# Altium footprint library SMD-IC  0607.PcbLib: 125 footprints (part 1 of 8)
Each footprint in its own frame and in the unit in brackets; x right, y up, seen from the top. Pads: shape width x height; smd on the part's side, far side on the other; paste and mask are expansions set on the pad; w line width, h text height; cw(c..) or ccw(c..) is an arc to the next point about the centre after c.
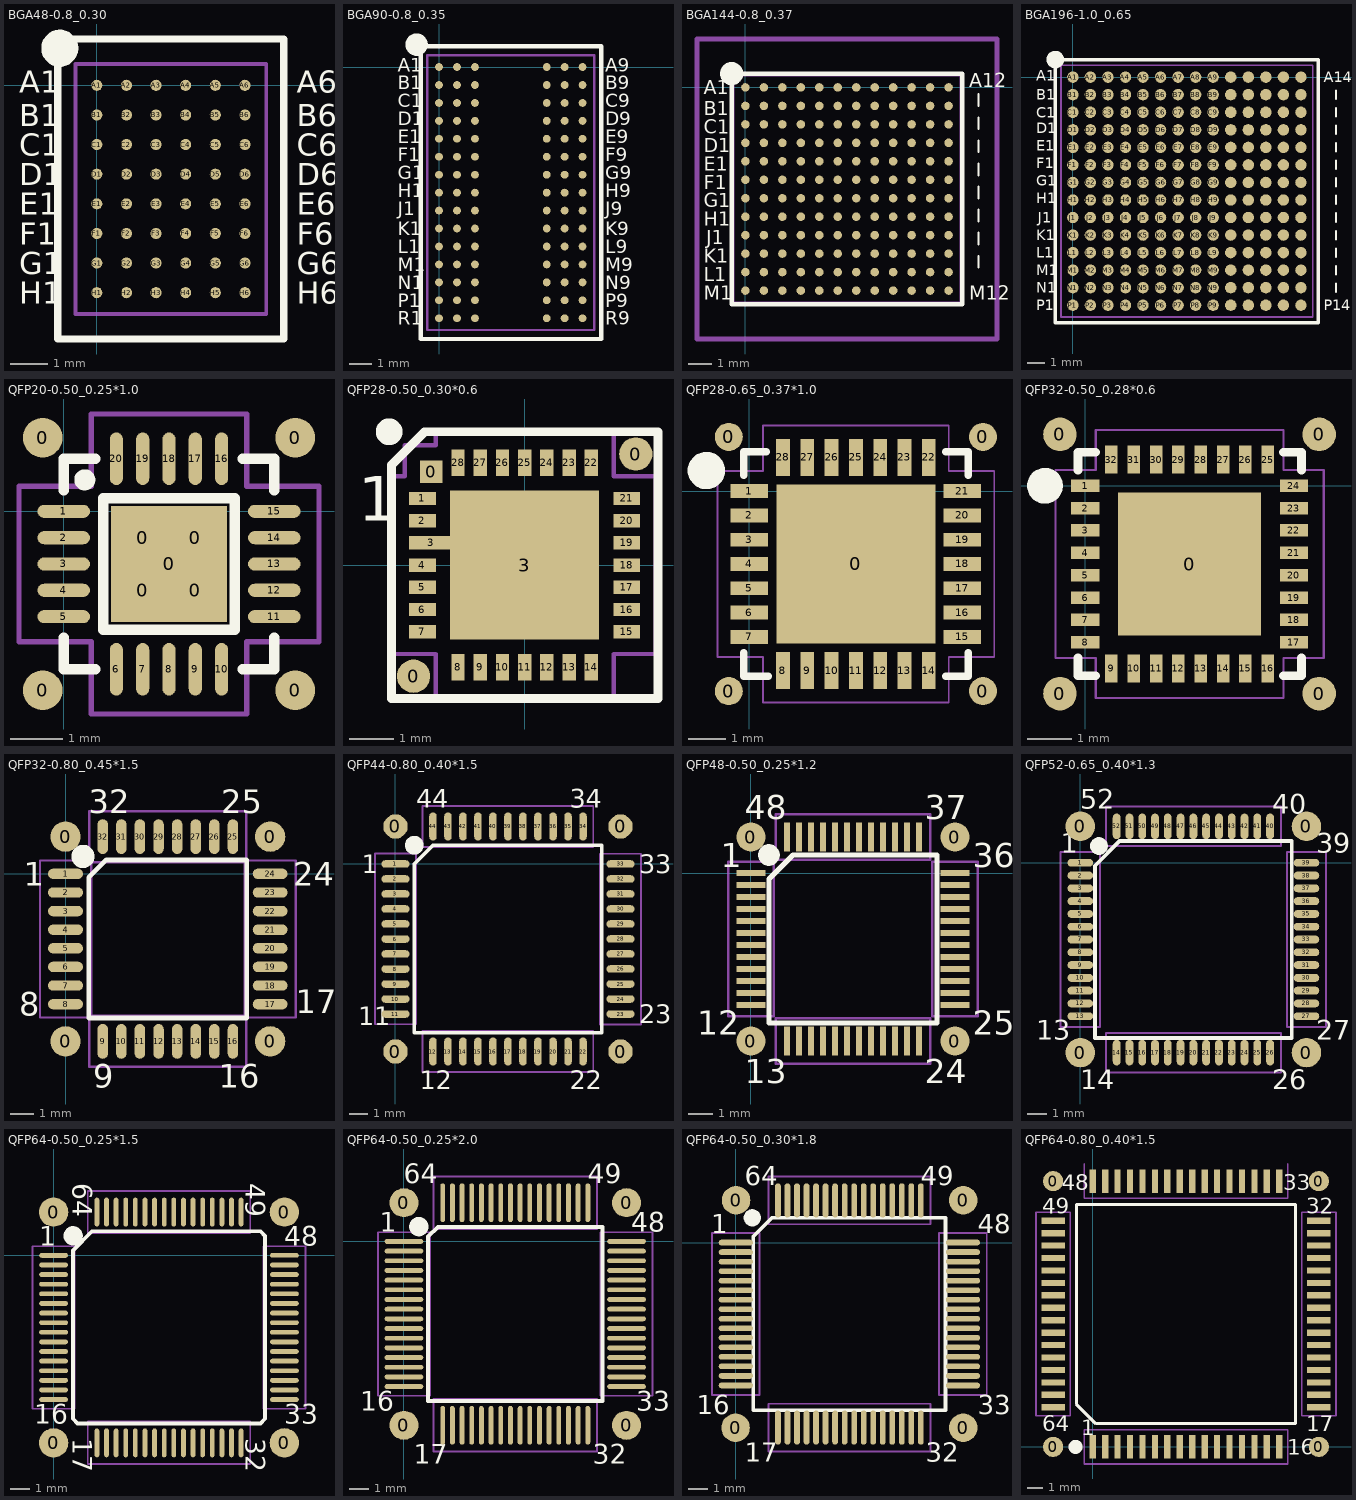
[diagram p0: the footprints below, top view; thin cyan lines are the x and y axes]

## BGA48-0.8_0.30 [mm] "2610754360;2610754860"
height 1.3
pads (48):
  round 0.3 smd: A1(0,0) A2(0.8,0) A3(1.6,0) A4(2.4,0) A5(3.2,0) A6(4,0) B1(0,-0.8) B2(0.8,-0.8) B3(1.6,-0.8) B4(2.4,-0.8) B5(3.2,-0.8) B6(4,-0.8) C1(0,-1.6) C2(0.8,-1.6) C3(1.6,-1.6) C4(2.4,-1.6) C5(3.2,-1.6) C6(4,-1.6) D1(0,-2.4) D2(0.8,-2.4) D3(1.6,-2.4) D4(2.4,-2.4) D5(3.2,-2.4) D6(4,-2.4) E1(0,-3.2) E2(0.8,-3.2) E3(1.6,-3.2) E4(2.4,-3.2) E5(3.2,-3.2) E6(4,-3.2) F1(0,-4) F2(0.8,-4) F3(1.6,-4) F4(2.4,-4) F5(3.2,-4) F6(4,-4) G1(0,-4.8) G2(0.8,-4.8) G3(1.6,-4.8) G4(2.4,-4.8) G5(3.2,-4.8) G6(4,-4.8) H1(0,-5.6) H2(0.8,-5.6) H3(1.6,-5.6) H4(2.4,-5.6) H5(3.2,-5.6) H6(4,-5.6)
Top Overlay:
  circle w0.5: c-1,1 r0.25
  lines w0.2: -1.05,-6.85 -1.05,1.25 5.05,1.25 5.05,-6.85 -1.05,-6.85
  text "A1" at -2.1,-0.2 h0.6
  text "E1" at -2.1,-3.5 h0.6
  text "F1" at -2.1,-4.3 h0.6
  text "B1" at -2.1,-1.1 h0.6
  text "C1" at -2.1,-1.9 h0.6
  text "G1" at -2.1,-5.1 h0.6
  text "H1" at -2.1,-5.9 h0.6
  text "D1" at -2.1,-2.7 h0.6
  text "D6" at 5.4,-2.7 h0.6
  text "H6" at 5.4,-5.9 h0.6
  text "G6" at 5.4,-5.1 h0.6
  text "C6" at 5.4,-1.9 h0.6
  text "B6" at 5.4,-1.1 h0.6
  text "F6" at 5.4,-4.3 h0.6
  text "E6" at 5.4,-3.5 h0.6
  text "A6" at 5.4,-0.2 h0.6
Mechanical 15:
  lines w0.1: -0.575,-6.175 -0.575,0.575 4.575,0.575 4.575,-6.175 -0.575,-6.175

## BGA90-0.8_0.35 [mm] "2610738244"
height 1.2
pads (90):
  round 0.35 smd: A1(0,0) A2(0.8,0) A3(1.6,0) A7(4.8,0) A8(5.6,0) A9(6.4,0) B1(0,-0.8) B2(0.8,-0.8) B3(1.6,-0.8) B7(4.8,-0.8) B8(5.6,-0.8) B9(6.4,-0.8) C1(0,-1.6) C2(0.8,-1.6) C3(1.6,-1.6) C7(4.8,-1.6) C8(5.6,-1.6) C9(6.4,-1.6) D1(0,-2.4) D2(0.8,-2.4) D3(1.6,-2.4) D7(4.8,-2.4) D8(5.6,-2.4) D9(6.4,-2.4) E1(0,-3.2) E2(0.8,-3.2) E3(1.6,-3.2) E7(4.8,-3.2) E8(5.6,-3.2) E9(6.4,-3.2) F1(0,-4) F2(0.8,-4) F3(1.6,-4) F7(4.8,-4) F8(5.6,-4) F9(6.4,-4) G1(0,-4.8) G2(0.8,-4.8) G3(1.6,-4.8) G7(4.8,-4.8) G8(5.6,-4.8) G9(6.4,-4.8) H1(0,-5.6) H2(0.8,-5.6) H3(1.6,-5.6) H7(4.8,-5.6) H8(5.6,-5.6) H9(6.4,-5.6) J1(0,-6.4) J2(0.8,-6.4) J3(1.6,-6.4) J7(4.8,-6.4) J8(5.6,-6.4) J9(6.4,-6.4) K1(0,-7.2) K2(0.8,-7.2) K3(1.6,-7.2) K7(4.8,-7.2) K8(5.6,-7.2) K9(6.4,-7.2) L1(0,-8) L2(0.8,-8) L3(1.6,-8) L7(4.8,-8) L8(5.6,-8) L9(6.4,-8) M1(0,-8.8) M2(0.8,-8.8) M3(1.6,-8.8) M7(4.8,-8.8) M8(5.6,-8.8) M9(6.4,-8.8) N1(0,-9.6) N2(0.8,-9.6) N3(1.6,-9.6) N7(4.8,-9.6) N8(5.6,-9.6) N9(6.4,-9.6) P1(0,-10.4) P2(0.8,-10.4) P3(1.6,-10.4) P7(4.8,-10.4) P8(5.6,-10.4) P9(6.4,-10.4) R1(0,-11.2) R2(0.8,-11.2) R3(1.6,-11.2) R7(4.8,-11.2) R8(5.6,-11.2) R9(6.4,-11.2)
Top Overlay:
  circle w0.5: c-1,1 r0.25
  lines w0.2: -0.825,-12.125 7.225,-12.125 7.225,0.925 -0.825,0.925 -0.825,-12.125
  text "R1" at -1.85,-11.5 h0.6
  text "D1" at -1.85,-2.6 h0.6
  text "H1" at -1.85,-5.8 h0.6
  text "N1" at -1.85,-9.9 h0.6
  text "M1" at -1.85,-9.1 h0.6
  text "G1" at -1.85,-5 h0.6
  text "C1" at -1.85,-1.8 h0.6
  text "B1" at -1.85,-1 h0.6
  text "P1" at -1.85,-10.7 h0.6
  text "L1" at -1.85,-8.3 h0.6
  text "K1" at -1.85,-7.5 h0.6
  text "J1" at -1.85,-6.6 h0.6
  text "F1" at -1.85,-4.2 h0.6
  text "E1" at -1.85,-3.4 h0.6
  text "A1" at -1.85,-0.2 h0.6
  text "A9" at 7.4,-0.2 h0.6
  text "E9" at 7.4,-3.4 h0.6
  text "F9" at 7.4,-4.2 h0.6
  text "J9" at 7.4,-6.6 h0.6
  text "K9" at 7.4,-7.5 h0.6
  text "L9" at 7.4,-8.3 h0.6
  text "P9" at 7.4,-10.7 h0.6
  text "B9" at 7.4,-1 h0.6
  text "C9" at 7.4,-1.8 h0.6
  text "G9" at 7.4,-5 h0.6
  text "M9" at 7.4,-9.1 h0.6
  text "N9" at 7.4,-9.9 h0.6
  text "H9" at 7.4,-5.8 h0.6
  text "D9" at 7.4,-2.6 h0.6
  text "R9" at 7.4,-11.5 h0.6
Mechanical 15:
  lines w0.1: -0.525,-11.725 -0.525,0.525 6.925,0.525 6.925,-11.725 -0.525,-11.725

## BGA144-0.8_0.37 [mm] "2610712342"
height 1.16
pads (144):
  round 0.37 smd: A1(0,0) A2(0.8,0) A3(1.6,0) A4(2.4,0) A5(3.2,0) A6(4,0) A7(4.8,0) A8(5.6,0) A9(6.4,0) A10(7.2,0) A11(8,0) A12(8.8,0) B1(0,-0.8) B2(0.8,-0.8) B3(1.6,-0.8) B4(2.4,-0.8) B5(3.2,-0.8) B6(4,-0.8) B7(4.8,-0.8) B8(5.6,-0.8) B9(6.4,-0.8) B10(7.2,-0.8) B11(8,-0.8) B12(8.8,-0.8) C1(0,-1.6) C2(0.8,-1.6) C3(1.6,-1.6) C4(2.4,-1.6) C5(3.2,-1.6) C6(4,-1.6) C7(4.8,-1.6) C8(5.6,-1.6) C9(6.4,-1.6) C10(7.2,-1.6) C11(8,-1.6) C12(8.8,-1.6) D1(0,-2.4) D2(0.8,-2.4) D3(1.6,-2.4) D4(2.4,-2.4) D5(3.2,-2.4) D6(4,-2.4) D7(4.8,-2.4) D8(5.6,-2.4) D9(6.4,-2.4) D10(7.2,-2.4) D11(8,-2.4) D12(8.8,-2.4) E1(0,-3.2) E2(0.8,-3.2) E3(1.6,-3.2) E4(2.4,-3.2) E5(3.2,-3.2) E6(4,-3.2) E7(4.8,-3.2) E8(5.6,-3.2) E9(6.4,-3.2) E10(7.2,-3.2) E11(8,-3.2) E12(8.8,-3.2) F1(0,-4) F2(0.8,-4) F3(1.6,-4) F4(2.4,-4) F5(3.2,-4) F6(4,-4) F7(4.8,-4) F8(5.6,-4) F9(6.4,-4) F10(7.2,-4) F11(8,-4) F12(8.8,-4) G1(0,-4.8) G2(0.8,-4.8) G3(1.6,-4.8) G4(2.4,-4.8) G5(3.2,-4.8) G6(4,-4.8) G7(4.8,-4.8) G8(5.6,-4.8) G9(6.4,-4.8) G10(7.2,-4.8) G11(8,-4.8) G12(8.8,-4.8) H1(0,-5.6) H2(0.8,-5.6) H3(1.6,-5.6) H4(2.4,-5.6) H5(3.2,-5.6) H6(4,-5.6) H7(4.8,-5.6) H8(5.6,-5.6) H9(6.4,-5.6) H10(7.2,-5.6) H11(8,-5.6) H12(8.8,-5.6) J1(0,-6.4) J2(0.8,-6.4) J3(1.6,-6.4) J4(2.4,-6.4) J5(3.2,-6.4) J6(4,-6.4) J7(4.8,-6.4) J8(5.6,-6.4) J9(6.4,-6.4) J10(7.2,-6.4) J11(8,-6.4) J12(8.8,-6.4) K1(0,-7.2) K2(0.8,-7.2) K3(1.6,-7.2) K4(2.4,-7.2) K5(3.2,-7.2) K6(4,-7.2) K7(4.8,-7.2) K8(5.6,-7.2) K9(6.4,-7.2) K10(7.2,-7.2) K11(8,-7.2) K12(8.8,-7.2) L1(0,-8) L2(0.8,-8) L3(1.6,-8) L4(2.4,-8) L5(3.2,-8) L6(4,-8) L7(4.8,-8) L8(5.6,-8) L9(6.4,-8) L10(7.2,-8) L11(8,-8) L12(8.8,-8) M1(0,-8.8) M2(0.8,-8.8) M3(1.6,-8.8) M4(2.4,-8.8) M5(3.2,-8.8) M6(4,-8.8) M7(4.8,-8.8) M8(5.6,-8.8) M9(6.4,-8.8) M10(7.2,-8.8) M11(8,-8.8) M12(8.8,-8.8)
Top Overlay:
  circle w0.5: c-0.6,0.6 r0.25
  lines w0.1: 10.1,-7.8 10.1,-7.3 ; 10.1,-6.8 10.1,-6.3 ; 10.1,-5.8 10.1,-5.3 ; 10.1,-4.8 10.1,-4.3 ; 10.1,-3.8 10.1,-3.3 ; 10.1,-2.8 10.1,-2.3 ; 10.1,-1.8 10.1,-1.3 ; 10.1,-0.8 10.1,-0.3
  lines w0.2: -0.6,-9.4 -0.6,0.6 9.4,0.6 9.4,-9.4 -0.6,-9.4
  text "D1" at -1.8,-2.8 h0.6
  text "H1" at -1.8,-6 h0.6
  text "M1" at -1.8,-9.2 h0.6
  text "G1" at -1.8,-5.2 h0.6
  text "M12" at 9.7,-9.2 h0.6
  text "A12" at 9.7,0 h0.6
  text "C1" at -1.8,-2 h0.6
  text "B1" at -1.8,-1.2 h0.6
  text "L1" at -1.8,-8.4 h0.6
  text "K1" at -1.8,-7.6 h0.6
  text "J1" at -1.7,-6.8 h0.6
  text "F1" at -1.8,-4.4 h0.6
  text "E1" at -1.8,-3.6 h0.6
  text "A1" at -1.8,-0.3 h0.6
Mechanical 7:
  lines w0.2: -2.1,-10.9 -2.1,2.1 10.9,2.1 10.9,-10.9 -2.1,-10.9
Mechanical 15:
  lines w0.1: -0.535,-9.335 9.335,-9.335 9.335,0.535 -0.535,0.535 -0.535,-9.335

## BGA196-1.0_0.65 [mm] "2550044005"
height 1.16
pads (196):
  round 0.65 smd: A1(0,0) A2(1,0) A3(2,0) A4(3,0) A5(4,0) A6(5,0) A7(6,0) A8(7,0) A9(8,0) A10(9,0) A11(10,0) A12(11,0) A13(12,0) A14(13,0) B1(0,-1) B2(1,-1) B3(2,-1) B4(3,-1) B5(4,-1) B6(5,-1) B7(6,-1) B8(7,-1) B9(8,-1) B10(9,-1) B11(10,-1) B12(11,-1) B13(12,-1) B14(13,-1) C1(0,-2) C2(1,-2) C3(2,-2) C4(3,-2) C5(4,-2) C6(5,-2) C7(6,-2) C8(7,-2) C9(8,-2) C10(9,-2) C11(10,-2) C12(11,-2) C13(12,-2) C14(13,-2) D1(0,-3) D2(1,-3) D3(2,-3) D4(3,-3) D5(4,-3) D6(5,-3) D7(6,-3) D8(7,-3) D9(8,-3) D10(9,-3) D11(10,-3) D12(11,-3) D13(12,-3) D14(13,-3) E1(0,-4) E2(1,-4) E3(2,-4) E4(3,-4) E5(4,-4) E6(5,-4) E7(6,-4) E8(7,-4) E9(8,-4) E10(9,-4) E11(10,-4) E12(11,-4) E13(12,-4) E14(13,-4) F1(0,-5) F2(1,-5) F3(2,-5) F4(3,-5) F5(4,-5) F6(5,-5) F7(6,-5) F8(7,-5) F9(8,-5) F10(9,-5) F11(10,-5) F12(11,-5) F13(12,-5) F14(13,-5) G1(0,-6) G2(1,-6) G3(2,-6) G4(3,-6) G5(4,-6) G6(5,-6) G7(6,-6) G8(7,-6) G9(8,-6) G10(9,-6) G11(10,-6) G12(11,-6) G13(12,-6) G14(13,-6) H1(0,-7) H2(1,-7) H3(2,-7) H4(3,-7) H5(4,-7) H6(5,-7) H7(6,-7) H8(7,-7) H9(8,-7) H10(9,-7) H11(10,-7) H12(11,-7) H13(12,-7) H14(13,-7) J1(0,-8) J2(1,-8) J3(2,-8) J4(3,-8) J5(4,-8) J6(5,-8) J7(6,-8) J8(7,-8) J9(8,-8) J10(9,-8) J11(10,-8) J12(11,-8) J13(12,-8) J14(13,-8) K1(0,-9) K2(1,-9) K3(2,-9) K4(3,-9) K5(4,-9) K6(5,-9) K7(6,-9) K8(7,-9) K9(8,-9) K10(9,-9) K11(10,-9) K12(11,-9) K13(12,-9) K14(13,-9) L1(0,-10) L2(1,-10) L3(2,-10) L4(3,-10) L5(4,-10) L6(5,-10) L7(6,-10) L8(7,-10) L9(8,-10) L10(9,-10) L11(10,-10) L12(11,-10) L13(12,-10) L14(13,-10) M1(0,-11) M2(1,-11) M3(2,-11) M4(3,-11) M5(4,-11) M6(5,-11) M7(6,-11) M8(7,-11) M9(8,-11) M10(9,-11) M11(10,-11) M12(11,-11) M13(12,-11) M14(13,-11) N1(0,-12) N2(1,-12) N3(2,-12) N4(3,-12) N5(4,-12) N6(5,-12) N7(6,-12) N8(7,-12) N9(8,-12) N10(9,-12) N11(10,-12) N12(11,-12) N13(12,-12) N14(13,-12) P1(0,-13) P2(1,-13) P3(2,-13) P4(3,-13) P5(4,-13) P6(5,-13) P7(6,-13) P8(7,-13) P9(8,-13) P10(9,-13) P11(10,-13) P12(11,-13) P13(12,-13) P14(13,-13)
Top Overlay:
  circle w0.5: c-1,1 r0.25
  lines w0.1: 15,-12.25 15,-11.75 ; 15,-11.25 15,-10.75 ; 15,-10.25 15,-9.75 ; 15,-9.25 15,-8.75 ; 15,-8.25 15,-7.75 ; 15,-7.25 15,-6.75 ; 15,-6.25 15,-5.75 ; 15,-5.25 15,-4.75 ; 15,-4.25 15,-3.75 ; 15,-3.25 15,-2.75 ; 15,-2.25 15,-1.75 ; 15,-1.25 15,-0.75
  lines w0.2: -1,-14 14,-14 14,1 -1,1 -1,-14
  text "A1" at -2.1,-0.2 h0.6
  text "E1" at -2.1,-4.2 h0.6
  text "F1" at -2.1,-5.2 h0.6
  text "J1" at -2,-8.3 h0.6
  text "K1" at -2.1,-9.3 h0.6
  text "L1" at -2.1,-10.3 h0.6
  text "P1" at -2.1,-13.3 h0.6
  text "B1" at -2.1,-1.3 h0.6
  text "C1" at -2.1,-2.3 h0.6
  text "A14" at 14.3,-0.3 h0.6
  text "P14" at 14.3,-13.3 h0.6
  text "G1" at -2.1,-6.2 h0.6
  text "M1" at -2.1,-11.3 h0.6
  text "N1" at -2.1,-12.3 h0.6
  text "H1" at -2.1,-7.2 h0.6
  text "D1" at -2.1,-3.2 h0.6
Mechanical 15:
  lines w0.1: -0.675,-13.675 -0.675,0.675 13.675,0.675 13.675,-13.675 -0.675,-13.675

## QFP20-0.50_0.25*1.0 [mm]
height 0.8
pads (29):
  round 0.75 smd: 0(-0.4,-3.4) 0(-0.4,1.4) 0(4.4,-3.4) 0(4.4,1.4)
  rect 0.7x0.6 on Top Solder: 0(1.5,-1.5) 0(1.5,-0.5) 0(2.5,-1.5) 0(2.5,-0.5)
  rect 2.2x2.2 smd: 0(2,-1)
  oval 1x0.25 smd: 1(0,0) 2(0,-0.5) 3(0,-1) 4(0,-1.5) 5(0,-2) 11(4,-2) 12(4,-1.5) 13(4,-1) 14(4,-0.5) 15(4,0)
  oval 0.25x1 smd: 6(1,-3) 7(1.5,-3) 8(2,-3) 9(2.5,-3) 10(3,-3) 16(3,1) 17(2.5,1) 18(2,1) 19(1.5,1) 20(1,1)
Top Overlay:
  circle w0.2: c0.4,0.6 r0.1
  lines w0.2: 0,-2.4 0,-3 0.6,-3 ; 0,0.4 0,1 0.6,1 ; 3.4,-3 4,-3 4,-2.4 ; 3.4,1 4,1 4,0.4 ; 0.75,-2.25 0.75,0.25 3.25,0.25 3.25,-2.25 0.75,-2.25
Mechanical 15:
  lines w0.1: -0.85,-2.475 -0.85,0.475 0.525,0.475 0.525,1.85 3.475,1.85 3.475,0.475 4.85,0.475 4.85,-2.475 3.475,-2.475 3.475,-3.85 0.525,-3.85 0.525,-2.475 -0.85,-2.475

## QFP28-0.50_0.30*0.6 [mm] "CP2102"
height 1
pads (32):
  round 0.75 smd: 0(-2.5,-2.5) 0(2.5,2.5)
  rect 0.5x0.5 smd: 0(-2.1,2.1)
  rect 0.6x0.3 smd: 1(-2.3,1.5) 2(-2.3,1) 4(-2.3,0) 5(-2.3,-0.5) 6(-2.3,-1) 7(-2.3,-1.5) 15(2.3,-1.5) 16(2.3,-1) 17(2.3,-0.5) 18(2.3,0) 19(2.3,0.5) 20(2.3,1) 21(2.3,1.5)
  rect 1x0.3 smd: 3(-2.1,0.5)
  rect 3.35x3.35 smd: 3(0,0)
  rect 0.3x0.6 smd: 8(-1.5,-2.3) 9(-1,-2.3) 10(-0.5,-2.3) 11(0,-2.3) 12(0.5,-2.3) 13(1,-2.3) 14(1.5,-2.3) 22(1.5,2.3) 23(1,2.3) 24(0.5,2.3) 25(0,2.3) 26(-0.5,2.3) 27(-1,2.3) 28(-1.5,2.3)
Top Overlay:
  circle w0.5: c-3.05,3 r0.05
  lines w0.2: -3,-3 3,-3 3,3 -2.25,3 -3,2.25 -3,-3
  text "1" at -3.75,1 h1
Top Solder:
  rectangle: -1.3,1.1 -0.7,1.4
  rectangle: -0.3,1.1 0.3,1.4
  rectangle: 0.7,1.1 1.3,1.4
  rectangle: 0.7,0.6 1.3,0.9
  rectangle: -0.3,0.6 0.3,0.9
  rectangle: -1.3,0.6 -0.7,0.9
  rectangle: -1.3,0.1 -0.7,0.4
  rectangle: -0.3,0.1 0.3,0.4
  rectangle: 0.7,0.1 1.3,0.4
  rectangle: -1.3,-0.4 -0.7,-0.1
  rectangle: -0.3,-0.4 0.3,-0.1
  rectangle: 0.7,-0.4 1.3,-0.1
  rectangle: -1.3,-0.9 -0.7,-0.6
  rectangle: -0.3,-0.9 0.3,-0.6
  rectangle: 0.7,-0.9 1.3,-0.6
  rectangle: -1.3,-1.4 -0.7,-1.1
  rectangle: -0.3,-1.4 0.3,-1.1
  rectangle: 0.7,-1.4 1.3,-1.1
  rectangle: -2.6,0.35 -2,0.65
Mechanical 7:
  lines w0.2: -1.465,-1.465 -1.465,0.63 -0.63,1.465 1.465,1.465 1.465,-1.465 -1.465,-1.465
Mechanical 15:
  lines w0.1: -2,-2.03 -2,-2.95 2,-2.95 2,-2 ; -2,-2 -2.95,-2 -2.95,2 -2.7,2 -2.7,2.7 -2,2.7 -2,2.95 2,2.95 2,2 2.95,2 2.95,-2 2.03,-2

## QFP28-0.65_0.37*1.0 [mm]
height 1
pads (33):
  round 0.75 smd: 0(-0.55,-5.35) 0(-0.55,1.45) 0(6.25,-5.35) 0(6.25,1.45)
  rect 4.25x4.25 smd: 0(2.85,-1.95)
  rect 1x0.37 smd: 1(0,0) 2(0,-0.65) 3(0,-1.3) 4(0,-1.95) 5(0,-2.6) 6(0,-3.25) 7(0,-3.9) 15(5.7,-3.9) 16(5.7,-3.25) 17(5.7,-2.6) 18(5.7,-1.95) 19(5.7,-1.3) 20(5.7,-0.65) 21(5.7,0)
  rect 0.37x1 smd: 8(0.9,-4.8) 9(1.55,-4.8) 10(2.2,-4.8) 11(2.85,-4.8) 12(3.5,-4.8) 13(4.15,-4.8) 14(4.8,-4.8) 22(4.8,0.9) 23(4.15,0.9) 24(3.5,0.9) 25(2.85,0.9) 26(2.2,0.9) 27(1.55,0.9) 28(0.9,0.9)
Top Overlay:
  circle w0.5: c-1.15,0.55 r0.25
  lines w0.2: -0.15,-4.325 -0.15,-4.95 0.5,-4.95 ; -0.15,0.425 -0.15,1.05 0.45,1.05 ; 5.25,-4.95 5.85,-4.95 5.85,-4.325 ; 5.25,1.05 5.85,1.05 5.85,0.425
Mechanical 15:
  lines w0.05: -0.85,-4.435 -0.85,0.535 0.365,0.535 0.365,1.75 5.335,1.75 5.335,0.535 6.55,0.535 6.55,-4.435 5.335,-4.435 5.335,-5.65 0.365,-5.65 0.365,-4.435 -0.85,-4.435

## QFP32-0.50_0.28*0.6 [mm]
height 1
pads (37):
  round 0.75 smd: 0(-0.565,1.15) 0(-0.565,-4.65) 0(5.235,-4.65) 0(5.235,1.15)
  rect 3.2x3.2 smd: 0(2.335,-1.75)
  rect 0.63x0.28 smd: 1(0,0) 2(0,-0.5) 3(0,-1) 4(0,-1.5) 5(0,-2) 6(0,-2.5) 7(0,-3) 8(0,-3.5) 17(4.67,-3.5) 18(4.67,-3) 19(4.67,-2.5) 20(4.67,-2) 21(4.67,-1.5) 22(4.67,-1) 23(4.67,-0.5) 24(4.67,0)
  rect 0.28x0.63 smd: 9(0.585,-4.085) 10(1.085,-4.085) 11(1.585,-4.085) 12(2.085,-4.085) 13(2.585,-4.085) 14(3.085,-4.085) 15(3.585,-4.085) 16(4.085,-4.085) 25(4.085,0.585) 26(3.585,0.585) 27(3.085,0.585) 28(2.585,0.585) 29(2.085,0.585) 30(1.585,0.585) 31(1.085,0.585) 32(0.585,0.585)
Top Overlay:
  circle w0.4: c-0.9,0 r0.2
  lines w0.2: -0.165,-3.85 -0.165,-4.25 0.235,-4.25 ; -0.165,0.35 -0.165,0.75 0.235,0.75 ; 4.435,-4.25 4.835,-4.25 4.835,-3.85 ; 4.435,0.75 4.835,0.75 4.835,0.35
Mechanical 15:
  lines w0.05: -0.665,-3.85 0.235,-3.85 0.235,-4.75 4.435,-4.75 4.435,-3.85 5.335,-3.85 5.335,0.35 4.435,0.35 4.435,1.25 0.235,1.25 0.235,0.35 -0.665,0.35 -0.665,-3.85

## QFP32-0.80_0.45*1.5 [mm]
pads (36):
  round 1.3 smd: 0(0,-7.2) 0(0,1.6) 0(8.8,-7.2) 0(8.8,1.6)
  oval 1.5x0.45 smd: 1(0,0) 2(0,-0.8) 3(0,-1.6) 4(0,-2.4) 5(0,-3.2) 6(0,-4) 7(0,-4.8) 8(0,-5.6) 17(8.8,-5.6) 18(8.8,-4.8) 19(8.8,-4) 20(8.8,-3.2) 21(8.8,-2.4) 22(8.8,-1.6) 23(8.8,-0.8) 24(8.8,0)
  oval 0.45x1.5 smd: 9(1.6,-7.2) 10(2.4,-7.2) 11(3.2,-7.2) 12(4,-7.2) 13(4.8,-7.2) 14(5.6,-7.2) 15(6.4,-7.2) 16(7.2,-7.2) 25(7.2,1.6) 26(6.4,1.6) 27(5.6,1.6) 28(4.8,1.6) 29(4,1.6) 30(3.2,1.6) 31(2.4,1.6) 32(1.6,1.6)
Top Overlay:
  circle w0.5: c0.75,0.75 r0.25
  lines w0.2: 1,-6.2 1,-0.15 1.75,0.6 7.8,0.6 7.8,-6.2 1,-6.2
  text "25" at 6.7,2.6 h1
  text "8" at -2,-6.1 h1
  text "1" at -1.8,-0.5 h1
  text "16" at 6.6,-9.2 h1
  text "9" at 1.2,-9.2 h1
  text "24" at 9.8,-0.5 h1
  text "17" at 9.9,-6 h1
  text "32" at 1,2.6 h1
Mechanical 15:
  lines w0.1: -1.1,-6.175 -1.1,0.575 1.1,0.575 1.1,-6.175 -1.1,-6.175 ; 1.025,-8.3 7.775,-8.3 7.775,-6.1 1.025,-6.1 1.025,-8.3 ; 1.025,0.5 7.775,0.5 7.775,2.7 1.025,2.7 1.025,0.5 ; 7.7,-6.175 7.7,0.575 9.9,0.575 9.9,-6.175 7.7,-6.175

## QFP44-0.80_0.40*1.5 [mm]
pads (48):
  round 1.3 smd: 0(0,-10) 0(0,2) 0(12,-10) 0(12,2)
  oval 1.5x0.4 smd: 1(0,0) 2(0,-0.8) 3(0,-1.6) 4(0,-2.4) 5(0,-3.2) 6(0,-4) 7(0,-4.8) 8(0,-5.6) 9(0,-6.4) 10(0,-7.2) 11(0,-8) 23(12,-8) 24(12,-7.2) 25(12,-6.4) 26(12,-5.6) 27(12,-4.8) 28(12,-4) 29(12,-3.2) 30(12,-2.4) 31(12,-1.6) 32(12,-0.8) 33(12,0)
  oval 0.4x1.5 smd: 12(2,-10) 13(2.8,-10) 14(3.6,-10) 15(4.4,-10) 16(5.2,-10) 17(6,-10) 18(6.8,-10) 19(7.6,-10) 20(8.4,-10) 21(9.2,-10) 22(10,-10) 34(10,2) 35(9.2,2) 36(8.4,2) 37(7.6,2) 38(6.8,2) 39(6,2) 40(5.2,2) 41(4.4,2) 42(3.6,2) 43(2.8,2) 44(2,2)
Top Overlay:
  circle w0.5: c1,1 r0.25
  lines w0.2: 1,-9 1,0 2,1 11,1 11,-9 1,-9
  text "23" at 13,-8.5 h1
  text "34" at 9.3,3 h1
  text "33" at 13,-0.5 h1
  text "22" at 9.3,-12 h1
  text "12" at 1.3,-12 h1
  text "11" at -2,-8.6 h1
  text "44" at 1.1,3 h1
  text "1" at -1.8,-0.5 h1
Mechanical 15:
  lines w0.1: -1.1,-8.55 -1.1,0.55 1.1,0.55 1.1,-8.55 -1.1,-8.55 ; 1.45,-11.1 10.55,-11.1 10.55,-8.9 1.45,-8.9 1.45,-11.1 ; 1.45,0.9 10.55,0.9 10.55,3.1 1.45,3.1 1.45,0.9 ; 10.9,-8.55 10.9,0.55 13.1,0.55 13.1,-8.55 10.9,-8.55

## QFP48-0.50_0.25*1.2 [mm] "H=1.45mm"
height 1.45
pads (52):
  round 1.2 smd: 0(0,-7) 0(0,1.5) 0(8.5,-7) 0(8.5,1.5)
  rect 1.2x0.25 smd: 1(0,0) 2(0,-0.5) 3(0,-1) 4(0,-1.5) 5(0,-2) 6(0,-2.5) 7(0,-3) 8(0,-3.5) 9(0,-4) 10(0,-4.5) 11(0,-5) 12(0,-5.5) 25(8.5,-5.5) 26(8.5,-5) 27(8.5,-4.5) 28(8.5,-4) 29(8.5,-3.5) 30(8.5,-3) 31(8.5,-2.5) 32(8.5,-2) 33(8.5,-1.5) 34(8.5,-1) 35(8.5,-0.5) 36(8.5,0)
  rect 0.25x1.2 smd: 13(1.5,-7) 14(2,-7) 15(2.5,-7) 16(3,-7) 17(3.5,-7) 18(4,-7) 19(4.5,-7) 20(5,-7) 21(5.5,-7) 22(6,-7) 23(6.5,-7) 24(7,-7) 37(7,1.5) 38(6.5,1.5) 39(6,1.5) 40(5.5,1.5) 41(5,1.5) 42(4.5,1.5) 43(4,1.5) 44(3.5,1.5) 45(3,1.5) 46(2.5,1.5) 47(2,1.5) 48(1.5,1.5)
Top Overlay:
  circle w0.5: c0.75,0.75 r0.2
  lines w0.2: 0.75,-6.25 7.75,-6.25 7.75,0.75 1.75,0.75 0.75,-0.25 0.75,-6.25
  text "48" at -0.25,2.25 h1
  text "37" at 7.25,2.25 h1
  text "36" at 9.25,0.25 h1
  text "13" at -0.25,-8.75 h1
  text "1" at -1.25,0.25 h1
  text "12" at -2.25,-6.75 h1
  text "24" at 7.25,-8.75 h1
  text "25" at 9.25,-6.75 h1
Mechanical 15:
  lines w0.1: -0.95,-5.975 0.95,-5.975 0.95,0.475 -0.95,0.475 -0.95,-5.975 ; 1.025,-7.95 7.475,-7.95 7.475,-6.05 1.025,-6.05 1.025,-7.95 ; 1.025,0.55 1.025,2.45 7.475,2.45 7.475,0.55 1.025,0.55 ; 7.55,-5.975 9.45,-5.975 9.45,0.475 7.55,0.475 7.55,-5.975

## QFP52-0.65_0.40*1.3 [mm] "H=1.7mm"
height 1.7
pads (56):
  round 1.5 smd: 0(0,-9.65) 0(0,1.85) 0(11.5,-9.65) 0(11.5,1.85)
  oval 1.3x0.4 smd: 1(0,0) 2(0,-0.65) 3(0,-1.3) 4(0,-1.95) 5(0,-2.6) 6(0,-3.25) 7(0,-3.9) 8(0,-4.55) 9(0,-5.2) 10(0,-5.85) 11(0,-6.5) 12(0,-7.15) 13(0,-7.8) 27(11.5,-7.8) 28(11.5,-7.15) 29(11.5,-6.5) 30(11.5,-5.85) 31(11.5,-5.2) 32(11.5,-4.55) 33(11.5,-3.9) 34(11.5,-3.25) 35(11.5,-2.6) 36(11.5,-1.95) 37(11.5,-1.3) 38(11.5,-0.65) 39(11.5,0)
  oval 0.4x1.3 smd: 14(1.85,-9.65) 15(2.5,-9.65) 16(3.15,-9.65) 17(3.8,-9.65) 18(4.45,-9.65) 19(5.1,-9.65) 20(5.75,-9.65) 21(6.4,-9.65) 22(7.05,-9.65) 23(7.7,-9.65) 24(8.35,-9.65) 25(9,-9.65) 26(9.65,-9.65) 40(9.65,1.85) 41(9,1.85) 42(8.35,1.85) 43(7.7,1.85) 44(7.05,1.85) 45(6.4,1.85) 46(5.75,1.85) 47(5.1,1.85) 48(4.45,1.85) 49(3.8,1.85) 50(3.15,1.85) 51(2.5,1.85) 52(1.85,1.85)
Top Overlay:
  circle w0.5: c0.95,0.85 r0.2
  lines w0.2: 0.75,-8.9 10.75,-8.9 10.75,1.1 2,1.1 0.75,-0.15 0.75,-8.9
  text "52" at 0,2.75 h1
  text "40" at 9.75,2.5 h1
  text "39" at 12,0.5 h1
  text "27" at 12,-9 h1
  text "26" at 9.75,-11.5 h1
  text "14" at 0,-11.5 h1
  text "13" at -2.25,-9 h1
  text "1" at -1,0.5 h1
Mechanical 15:
  lines w0.1: -1,-8.35 -1,0.55 1,0.55 1,-8.35 -1,-8.35 ; 1.3,-10.65 1.3,-8.65 10.2,-8.65 10.2,-10.65 1.3,-10.65 ; 1.3,0.85 1.3,2.85 10.2,2.85 10.2,0.85 1.3,0.85 ; 10.5,-8.35 10.5,0.55 12.5,0.55 12.5,-8.35 10.5,-8.35

## QFP64-0.50_0.25*1.5 [mm]
height 1.45
pads (68):
  round 1.524 smd: 0(0,-9.75) 0(0,2.25) 0(12,-9.75) 0(12,2.25)
  oval 1.5x0.25 smd: 1(0,0) 2(0,-0.5) 3(0,-1) 4(0,-1.5) 5(0,-2) 6(0,-2.5) 7(0,-3) 8(0,-3.5) 9(0,-4) 10(0,-4.5) 11(0,-5) 12(0,-5.5) 13(0,-6) 14(0,-6.5) 15(0,-7) 16(0,-7.5) 33(12,-7.5) 34(12,-7) 35(12,-6.5) 36(12,-6) 37(12,-5.5) 38(12,-5) 39(12,-4.5) 40(12,-4) 41(12,-3.5) 42(12,-3) 43(12,-2.5) 44(12,-2) 45(12,-1.5) 46(12,-1) 47(12,-0.5) 48(12,0)
  oval 0.25x1.5 smd: 17(2.25,-9.75) 18(2.75,-9.75) 19(3.25,-9.75) 20(3.75,-9.75) 21(4.25,-9.75) 22(4.75,-9.75) 23(5.25,-9.75) 24(5.75,-9.75) 25(6.25,-9.75) 26(6.75,-9.75) 27(7.25,-9.75) 28(7.75,-9.75) 29(8.25,-9.75) 30(8.75,-9.75) 31(9.25,-9.75) 32(9.75,-9.75) 49(9.75,2.25) 50(9.25,2.25) 51(8.75,2.25) 52(8.25,2.25) 53(7.75,2.25) 54(7.25,2.25) 55(6.75,2.25) 56(6.25,2.25) 57(5.75,2.25) 58(5.25,2.25) 59(4.75,2.25) 60(4.25,2.25) 61(3.75,2.25) 62(3.25,2.25) 63(2.75,2.25) 64(2.25,2.25)
Top Overlay:
  circle w0.5: c1.016,1.016 r0.25
  lines w0.2: 1,-8.5 1.25,-8.75 10.75,-8.75 11,-8.5 11,1 10.75,1.25 2,1.25 1,0.25 1,-8.5
  text "1" at -0.75,0.5 h1
  text "16" at -1,-8.75 h1
  text "17" at 1,-9.5 h1
  text "32" at 10,-9.5 h1
  text "33" at 12,-8.75 h1
  text "48" at 12,0.5 h1
  text "49" at 10,3.75 h1
  text "64" at 1,3.75 h1
Mechanical 15:
  lines w0.1: -1.1,-7.975 1.1,-7.975 1.1,0.475 -1.1,0.475 -1.1,-7.975 ; 1.775,-10.85 10.225,-10.85 10.225,-8.65 1.775,-8.65 1.775,-10.85 ; 1.775,1.15 10.225,1.15 10.225,3.35 1.775,3.35 1.775,1.15 ; 10.9,-7.975 10.9,0.475 13.1,0.475 13.1,-7.975 10.9,-7.975

## QFP64-0.50_0.25*2.0 [mm]
height 1.2
pads (68):
  round 1.5 smd: 0(0,-9.5) 0(0,2) 0(11.5,-9.5) 0(11.5,2)
  oval 2x0.25 smd: 1(0,0) 2(0,-0.5) 3(0,-1) 4(0,-1.5) 5(0,-2) 6(0,-2.5) 7(0,-3) 8(0,-3.5) 9(0,-4) 10(0,-4.5) 11(0,-5) 12(0,-5.5) 13(0,-6) 14(0,-6.5) 15(0,-7) 16(0,-7.5) 33(11.5,-7.5) 34(11.5,-7) 35(11.5,-6.5) 36(11.5,-6) 37(11.5,-5.5) 38(11.5,-5) 39(11.5,-4.5) 40(11.5,-4) 41(11.5,-3.5) 42(11.5,-3) 43(11.5,-2.5) 44(11.5,-2) 45(11.5,-1.5) 46(11.5,-1) 47(11.5,-0.5) 48(11.5,0)
  oval 0.25x2 smd: 17(2,-9.5) 18(2.5,-9.5) 19(3,-9.5) 20(3.5,-9.5) 21(4,-9.5) 22(4.5,-9.5) 23(5,-9.5) 24(5.5,-9.5) 25(6,-9.5) 26(6.5,-9.5) 27(7,-9.5) 28(7.5,-9.5) 29(8,-9.5) 30(8.5,-9.5) 31(9,-9.5) 32(9.5,-9.5) 49(9.5,2) 50(9,2) 51(8.5,2) 52(8,2) 53(7.5,2) 54(7,2) 55(6.5,2) 56(6,2) 57(5.5,2) 58(5,2) 59(4.5,2) 60(4,2) 61(3.5,2) 62(3,2) 63(2.5,2) 64(2,2)
Top Overlay:
  circle w0.5: c0.766,0.766 r0.25
  lines w0.2: 1.25,-8.25 1.25,0.25 1.75,0.75 10.25,0.75 10.25,-8.25 1.25,-8.25
  text "64" at 0,3 h1
  text "49" at 9.5,3 h1
  text "48" at 11.75,0.5 h1
  text "33" at 12,-8.75 h1
  text "32" at 9.75,-11.5 h1
  text "17" at 0.5,-11.5 h1
  text "16" at -2.25,-8.75 h1
  text "1" at -1.25,0.5 h1
Mechanical 15:
  lines w0.1: -1.35,-7.975 -1.35,0.475 1.35,0.475 1.35,-7.975 -1.35,-7.975 ; 1.525,-10.85 1.525,-8.15 9.975,-8.15 9.975,-10.85 1.525,-10.85 ; 1.525,0.65 1.525,3.35 9.975,3.35 9.975,0.65 1.525,0.65 ; 10.15,-7.975 12.85,-7.975 12.85,0.475 10.15,0.475 10.15,-7.975

## QFP64-0.50_0.30*1.8 [mm] "H=1.6mm"
height 1.6
pads (68):
  round 1.5 smd: 0(-0.012,-9.725) 0(0.012,2.225) 0(11.937,-9.725) 0(11.937,2.225)
  oval 1.8x0.3 smd: 1(0,0) 2(0,-0.5) 3(0,-1) 4(0,-1.5) 5(0,-2) 6(0,-2.5) 7(0,-3) 8(0,-3.5) 9(0,-4) 10(0,-4.5) 11(0,-5) 12(0,-5.5) 13(0,-6) 14(0,-6.5) 15(0,-7) 16(0,-7.5) 33(11.925,-7.5) 34(11.925,-7) 35(11.925,-6.5) 36(11.925,-6) 37(11.925,-5.5) 38(11.925,-5) 39(11.925,-4.5) 40(11.925,-4) 41(11.925,-3.5) 42(11.925,-3) 43(11.925,-2.5) 44(11.925,-2) 45(11.925,-1.5) 46(11.925,-1) 47(11.925,-0.5) 48(11.925,0)
  oval 0.3x1.8 smd: 17(2.212,-9.713) 18(2.713,-9.713) 19(3.213,-9.713) 20(3.713,-9.713) 21(4.213,-9.713) 22(4.713,-9.713) 23(5.213,-9.713) 24(5.713,-9.713) 25(6.213,-9.713) 26(6.713,-9.713) 27(7.213,-9.713) 28(7.713,-9.713) 29(8.212,-9.713) 30(8.712,-9.713) 31(9.212,-9.713) 32(9.713,-9.713) 49(9.713,2.212) 50(9.212,2.212) 51(8.712,2.212) 52(8.212,2.212) 53(7.712,2.212) 54(7.212,2.212) 55(6.713,2.212) 56(6.212,2.213) 57(5.713,2.212) 58(5.213,2.213) 59(4.712,2.212) 60(4.213,2.212) 61(3.713,2.212) 62(3.213,2.212) 63(2.712,2.212) 64(2.212,2.212)
Top Overlay:
  circle w0.5: c0.863,1.3 r0.2
  lines w0.2: 0.912,-8.8 0.912,0.314 1.898,1.3 11.013,1.3 11.013,-8.8 0.912,-8.8
  text "64" at 0.462,3 h1
  text "49" at 9.712,3 h1
  text "48" at 12.712,0.5 h1
  text "33" at 12.712,-9 h1
  text "32" at 9.962,-11.5 h1
  text "17" at 0.462,-11.5 h1
  text "16" at -2.038,-9 h1
  text "1" at -1.288,0.5 h1
Mechanical 15:
  lines w0.1: -1.25,-8 1.25,-8 1.25,0.5 -1.25,0.5 -1.25,-8 ; 1.712,-10.963 10.212,-10.963 10.212,-8.463 1.712,-8.463 1.712,-10.963 ; 1.712,0.962 10.212,0.962 10.212,3.462 1.712,3.462 1.712,0.962 ; 10.675,-8 13.175,-8 13.175,0.5 10.675,0.5 10.675,-8

## QFP64-0.80_0.40*1.5 [mm]
height 2.45
pads (68):
  round 1.3 smd: 0(-2.55,0) 0(-2.55,17.1) 0(14.55,0) 0(14.55,17.1)
  rect 0.4x1.5 smd: 1(0,0) 2(0.8,0) 3(1.6,0) 4(2.4,0) 5(3.2,0) 6(4,0) 7(4.8,0) 8(5.6,0) 9(6.4,0) 10(7.2,0) 11(8,0) 12(8.8,0) 13(9.6,0) 14(10.4,0) 15(11.2,0) 16(12,0) 33(12,17.1) 34(11.2,17.1) 35(10.4,17.1) 36(9.6,17.1) 37(8.8,17.1) 38(8,17.1) 39(7.2,17.1) 40(6.4,17.1) 41(5.6,17.1) 42(4.8,17.1) 43(4,17.1) 44(3.2,17.1) 45(2.4,17.1) 46(1.6,17.1) 47(0.8,17.1) 48(0,17.1)
  rect 1.5x0.4 smd: 17(14.55,2.55) 18(14.55,3.35) 19(14.55,4.15) 20(14.55,4.95) 21(14.55,5.75) 22(14.55,6.55) 23(14.55,7.35) 24(14.55,8.15) 25(14.55,8.95) 26(14.55,9.75) 27(14.55,10.55) 28(14.55,11.35) 29(14.55,12.15) 30(14.55,12.95) 31(14.55,13.75) 32(14.55,14.55) 49(-2.55,14.55) 50(-2.55,13.75) 51(-2.55,12.95) 52(-2.55,12.15) 53(-2.55,11.35) 54(-2.55,10.55) 55(-2.55,9.75) 56(-2.55,8.95) 57(-2.55,8.15) 58(-2.55,7.35) 59(-2.55,6.55) 60(-2.55,5.75) 61(-2.55,4.95) 62(-2.55,4.15) 63(-2.55,3.35) 64(-2.55,2.55)
Top Overlay:
  circle w0.5: c-1.1,0 r0.2
  lines w0.2: -1.05,2.75 0.2,1.5 13.05,1.5 13.05,15.6 -1.05,15.6 -1.05,2.75
  text "1" at -0.75,0.75 h1
  text "64" at -3.25,1 h1
  text "49" at -3.25,15 h1
  text "48" at -2,16.5 h1
  text "33" at 12.25,16.5 h1
  text "32" at 13.75,15 h1
  text "17" at 13.75,1 h1
  text "16" at 12.5,-0.5 h1
Mechanical 15:
  lines w0.1: -0.55,18.2 -0.55,16 12.55,16 12.55,18.2 ; -3.65,2 -3.65,15.1 -1.45,15.1 -1.45,2 -3.65,2 ; -0.55,-1.1 12.55,-1.1 12.55,1.1 -0.55,1.1 -0.55,-1.1 ; 13.45,2 13.45,15.1 15.65,15.1 15.65,2 13.45,2